# Altium footprint library mechanics.PcbLib: 37 footprints (part 3 of 3)
Each footprint in its own frame and in the unit in brackets; x right, y up, seen from the top. Pads: shape width x height; smd on the part's side, far side on the other; paste and mask are expansions set on the pad; w line width, h text height; cw(c..) or ccw(c..) is an arc to the next point about the centre after c.
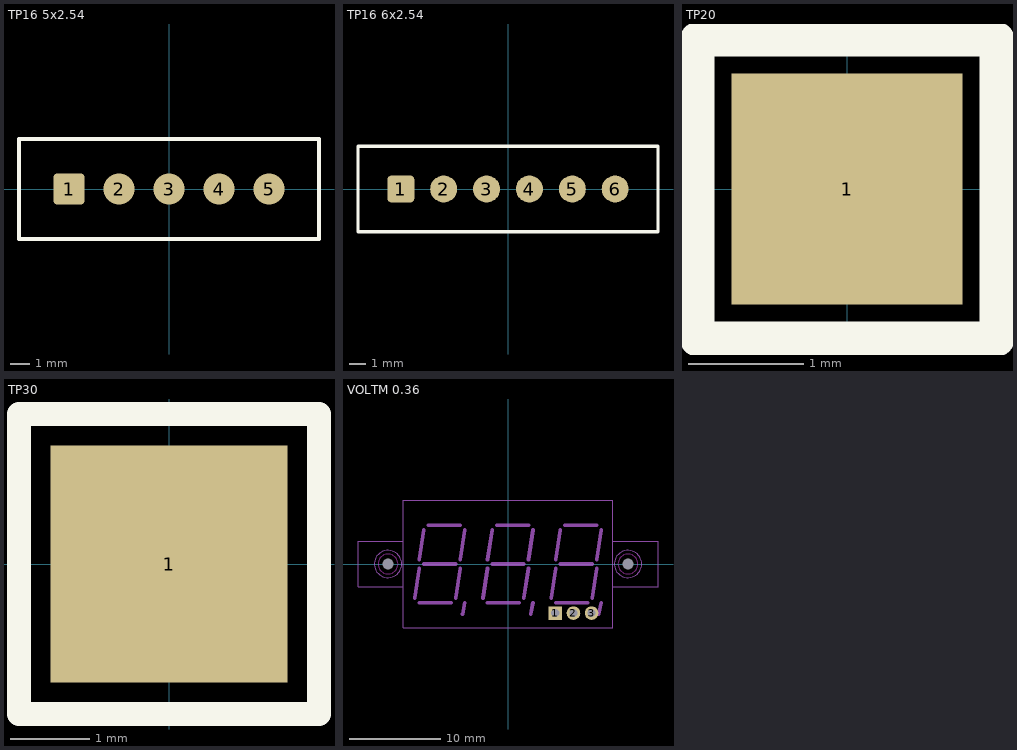
[diagram p2: the footprints below, top view; thin cyan lines are the x and y axes]

## TP16 5x2.54 [mm] "5 test pins 2.54mm pitch"
pads (5):
  rrect30% 1.6x1.6 smd paste-1: 1(-5.08,0)
  round 1.6 smd paste-1: 2(-2.54,0) 3(0,0) 4(2.54,0) 5(5.08,0)
Top Overlay:
  lines w0.2: -7.62,-2.54 -7.62,2.54 7.62,2.54 7.62,-2.54 -7.62,-2.54

## TP16 6x2.54 [mm] "6 test pins 2.54mm pitch"
pads (6):
  rrect30% 1.6x1.6 smd paste-1: 1(-6.35,0)
  round 1.6 smd paste-1: 2(-3.81,0) 3(-1.27,0) 4(1.27,0) 5(3.81,0) 6(6.35,0)
Top Overlay:
  lines w0.2: -8.89,-2.54 8.89,-2.54 8.89,2.54 -8.89,2.54 -8.89,-2.54

## TP20 [mm]
pads (1):
  rect 2x2 smd paste-3: 1(0,0)
Top Overlay:
  lines w0.3: -1.3,-1.3 -1.3,1.3 1.3,1.3 1.3,-1.3 -1.3,-1.3

## TP30 [mm]
pads (1):
  rect 3x3 smd paste-3: 1(0,0)
Top Overlay:
  lines w0.3: -1.9,-1.9 1.9,-1.9 1.9,1.9 -1.9,1.9 -1.9,-1.9

## VOLTM 0.36 [mm] "Voltmeter 0.36 inch"
height 12
pads (5):
  rect 1.5x1.5 hole 0.9: 1(5.2,-5.4)
  round 1.5 hole 0.9: 2(7.2,-5.4) 3(9.2,-5.4)
  round 0 hole 1.2 unplated mask+0.9: M1(-13.2,0) M2(13.2,0)
Mechanical 1:
  circle w0.1: c13.2,0 r1.5
  circle w0.1: c-13.2,0 r1.5
  lines w0.1: -11.5,-2.5 -16.5,-2.5 -16.5,2.5 -11.5,2.5 ; 11.5,-2.5 16.5,-2.5 16.5,2.5 11.5,2.5 ; -11.5,-7 11.5,-7 11.5,7 -11.5,7 -11.5,-7
  lines w0.4: -10.25,-3.75 -9.75,-0.5 ; -9.75,-4.25 -6.25,-4.25 ; -9.75,0.5 -9.25,3.75 ; -9.25,0 -5.75,0 ; -8.75,4.25 -5.25,4.25 ; -5.75,-3.75 -5.25,-0.5 ; -5.25,0.5 -4.75,3.75 ; -5,-5.5 -4.75,-4.25 ; -2.75,-3.75 -2.25,-0.5 ; -2.25,-4.25 1.25,-4.25 ; -2.25,0.5 -1.75,3.75 ; -1.75,0 1.75,0 ; -1.25,4.25 2.25,4.25 ; 1.75,-3.75 2.25,-0.5 ; 2.25,0.5 2.75,3.75 ; 2.5,-5.5 2.75,-4.25 ; 4.75,-3.75 5.25,-0.5 ; 5.25,-4.25 8.75,-4.25 ; 5.25,0.5 5.75,3.75 ; 5.75,0 9.25,0 ; 6.25,4.25 9.75,4.25 ; 9.25,-3.75 9.75,-0.5 ; 9.75,0.5 10.25,3.75 ; 10,-5.5 10.25,-4.25
Multi-Layer keep-out:
  circle w0.1: c13.2,0 r1.1
  circle w0.1: c-13.2,0 r1.1
3D body: height 12, standoff 5, extent 3.75,-7 11.25,7
3D body: height 12, standoff 5, extent -3.75,-7 3.75,7
3D body: height 12, standoff 5, extent -11.25,-7 -3.75,7
3D body: height 4.5, standoff 3, extent -16.5,-7 16.5,7
3D body: height 5.5, standoff -2.5, extent 8.7,-5.65 9.2,-5.15
3D body: height 5.5, standoff -2.5, extent 6.7,-5.65 7.2,-5.15
3D body: height 5.5, standoff -2.5, extent 4.7,-5.65 5.2,-5.15